# Altium schematic symbol library JACK-2.5MM.SchLib: 1 symbol
Pins are listed as number, name and electrical type; pins without a type are passive.

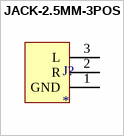
[diagram p0: symbol JACK-2.5MM-3POS]

## JACK-2.5MM-3POS
designator J?
pins: 1 GND, 2 R, 3 L